# EAGLE library part ADRF5720 (library Analog Devices)
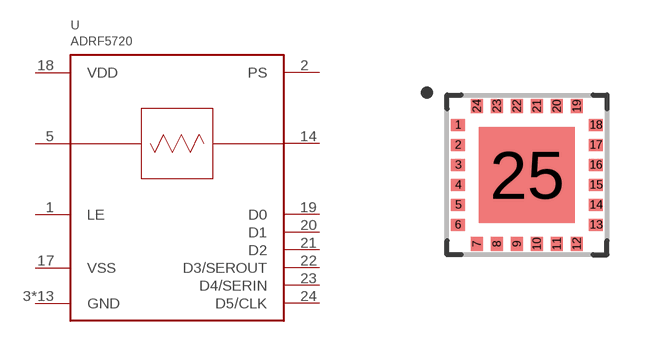
[diagram p62: symbol with the pads of LGA24; footprint LGA24]

Designator prefix U

## ADRF5720  [LGA24]
1  LE
2  PS
3  GND
4  GND
5  ATTIN
6  GND
7  GND
8  GND
9  GND
10  GND
11  GND
12  GND
13  GND
14  ATTOUT
15  GND
16  GND
17  VSS
18  VDD
19  D0
20  D1
21  D2
22  D3/SEROUT
23  D4/SERIN
24  D5/CLK
25  GND

## Footprint LGA24 (pad centres in mm)
smd 0.35 x 0.3: 1 -1.725,1.25; 2 -1.725,0.75; 3 -1.725,0.25; 4 -1.725,-0.25; 5 -1.725,-0.75; 6 -1.725,-1.25; 13 1.725,-1.25; 14 1.725,-0.75; 15 1.725,-0.25; 16 1.725,0.25; 17 1.725,0.75; 18 1.725,1.25
smd 0.3 x 0.35: 7 -1.25,-1.725; 8 -0.75,-1.725; 9 -0.25,-1.725; 10 0.25,-1.725; 11 0.75,-1.725; 12 1.25,-1.725; 19 1.25,1.725; 20 0.75,1.725; 21 0.25,1.725; 22 -0.25,1.725; 23 -0.75,1.725; 24 -1.25,1.725
smd 2.4 x 2.4: 25 0,0